# EAGLE library part 10FDZ-BT(CK16) (library growbot)
Разъем для пленочной клавиатуры CK-16
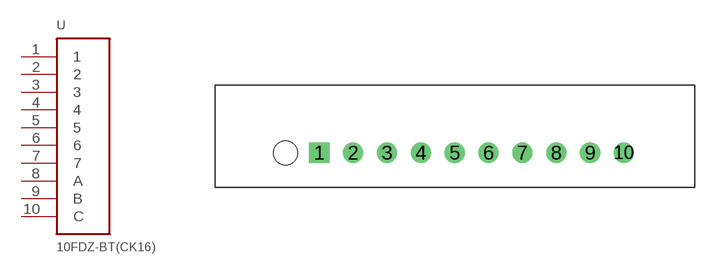
[diagram p7: symbol with the pads of 10F-KEYS; footprint 10F-KEYS]

Designator prefix -

## 10FDZ-BT(CK16)  [10F-KEYS]
1  1
2  2
3  3
4  4
5  5
6  6
7  7
8  A
9  B
10  C

## Footprint 10F-KEYS (pad centres in mm)
FDZ package for keyboard
drill 1 square: 1 -10.16,0
drill 1: 2 -7.62,0; 3 -5.08,0; 4 -2.54,0; 5 0,0; 6 2.54,0; 7 5.08,0; 8 7.62,0; 9 10.16,0; 10 12.7,0
hole 1.8 at -12.7,0